# Altium footprint library PCI.PcbLib: 1 footprints
Each footprint in its own frame and in the unit in brackets; x right, y up, seen from the top. Pads: shape width x height; smd on the part's side, far side on the other; paste and mask are expansions set on the pad; w line width, h text height; cw(c..) or ccw(c..) is an arc to the next point about the centre after c.
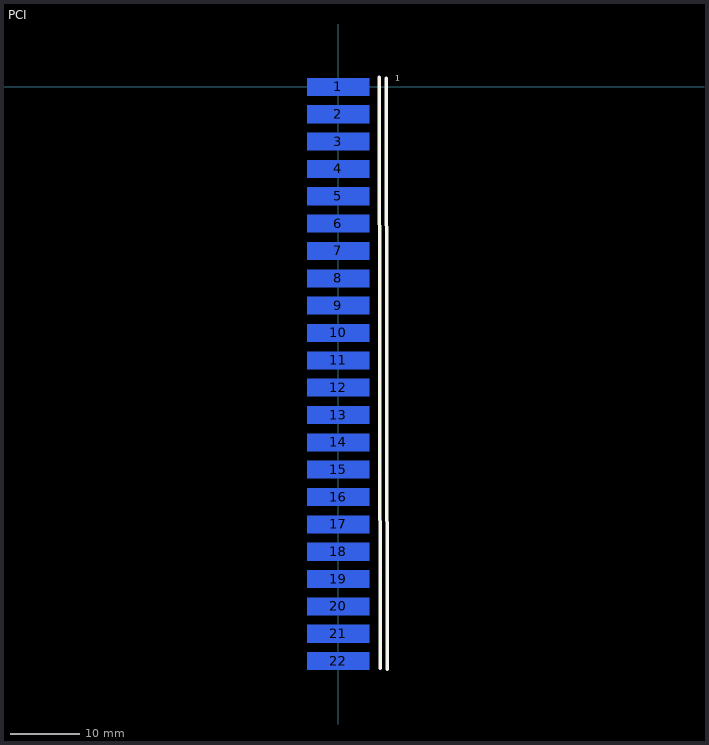
[diagram p0: the footprint, top view; thin cyan lines are the x and y axes]

## PCI [mm]
pads (22):
  rect 9x2.54 smd far side: 1(0,0) 2(0,-3.96) 3(0,-7.92) 4(0,-11.88) 5(0,-15.84) 6(0,-19.8) 7(0,-23.76) 8(0,-27.72) 9(0,-31.68) 10(0,-35.64) 11(0,-39.6) 12(0,-43.56) 13(0,-47.52) 14(0,-51.48) 15(0,-55.44) 16(0,-59.4) 17(0,-63.36) 18(0,-67.32) 19(0,-71.28) 20(0,-75.24) 21(0,-79.2) 22(0,-83.16)
Top Overlay:
  lines w0.5: 5.969,1.397 6.096,-84.201 ; 6.985,1.27 7.112,-84.328
  text "1" at 8.288,0.922 h0.8